# Altium schematic symbol library GRM31CD80J107MEA8L.SchLib: 2 symbols
Pins are listed as number, name and electrical type; pins without a type are passive.

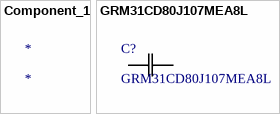
[diagram p0: symbols Component_1 to GRM31CD80J107MEA8L]

## Component_1
designator *

## GRM31CD80J107MEA8L
designator C?
No Description Available; Mfr_Name: Murata; Type: DEV; Copyright: Copyright (C) 2023 Ultra Librarian. All rights reserved.; Manufacturer_Part_Number: GRM31CD80J107MEA8L; RefDes: RefDes
footprint CAP_GRM31C_MUR
pins: 1, 2